# EAGLE library part 6621XX145021_662106145021 (library 66200211022_Eagle_WR-MPC3_rev19b)
WR-MPC3 3.00 mm SMT Male Single Row Angled Header with SMT Solder Tabs KIND PROPERTIES Pitch 3 mm Gender Male MATERIAL PROPERTIES Insulator Material LCP Insulator Flammability Rating UL94 V-0 Insulator Color Black Contact Material Copper Alloy Contact Plating Tin Contact Type Stamped GENERAL INFORMATION Operating Temperature -40 up to +105 °C Compliance:RoHS Working Voltage 250 V (AC) Withstanding Voltage 1500 V (AC) Contact Resistance 10 mΩ RISO 1000 MΩ CERTIFICATION UL Approval E323964 WIRE PROPERTIES Packaging Tape and Reel <https://katalog.we-online.de/media/images/v2/o33172v209%20Family_WR-MPC3_6621xx145021.jpg> Details see: https://katalog.we-online.de/en/em/MPC3_3_00_MALE_SINGLE_ROW_ANGLED_HEADER_6621XX145021 Created by Yingchun,Shan 2019-11-15 2019 (C) Würth Elektronik
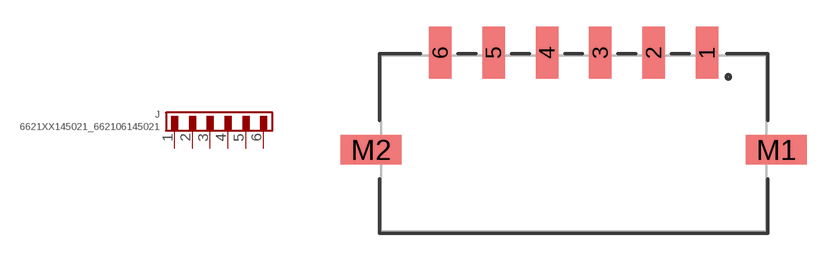
[diagram p100: symbol with the pads of 662106145021; footprint 662106145021]

Designator prefix J

## 6621XX145021_662106145021 (CONTACT-RESISTANCE: 10Ohm; DATASHEET-URL: https://katalog.we-online.com/em/datasheet/662106145021.pdf; GENDER: Male; IR1: 5A; L: 21.65mm; MATE-WITH: WR-MPC3 3.00 mm Female Single Row Receptacle; MOUNT: SMT; PACKAGING: Tape and Reel; PART-NUMBER: 662106145021; PCB-CABLE-PANEL: PCB; PINS: 6; PITCH: 3mm; ROWS: Single; TOL-R: max.; TYPE: Right Angled; WORKING-VOLTAGE: 250V(AC))  [662106145021]
1  1  pas
2  2  pas
3  3  pas
4  4  pas
5  5  pas
6  6  pas

## Footprint 662106145021 (pad centres in mm)
WR-MPC3 3.00 mm SMT Male Single Row Angled Header with SMT Solder Tabs, 6 Pins
smd 1.27 x 2.92: 1 7.5,5.12; 2 4.5,5.12; 3 1.5,5.12; 4 -1.5,5.12; 5 -4.5,5.12; 6 -7.5,5.12
smd 3.43 x 1.65: M1 11.395,-0.35; M2 -11.395,-0.35